# EAGLE library part NFC_MODULE_V3_SPI (library joakim)
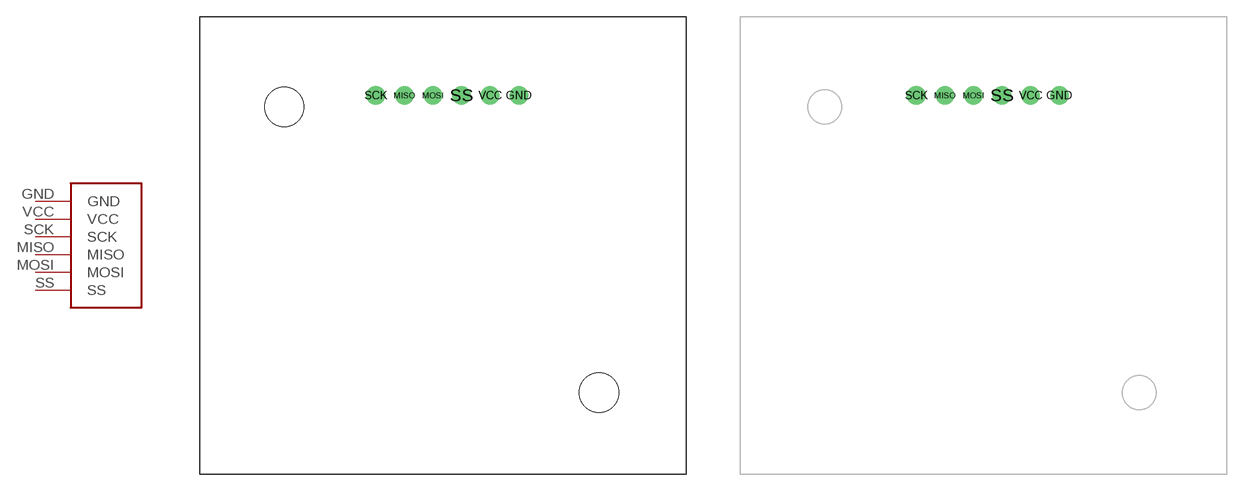
[diagram p34: symbol with the pads of NFC_MODULE_V3_SPI_CENTERED; footprints NFC_MODULE_V3_SPI_CENTERED, NFC_MODULE_V3_SPI_CENTERED_NO_HOLES]

Designator prefix -

## NFC_MODULE_V3_SPI  [NFC_MODULE_V3_SPI_CENTERED]
GND  GND
MISO  MISO
MOSI  MOSI
SCK  SCK
SS  SS
VCC  VCC

## NFC_MODULE_V3_SPINH  [NFC_MODULE_V3_SPI_CENTERED_NO_HOLES]
Pads as for NFC_MODULE_V3_SPI_CENTERED

## Footprint NFC_MODULE_V3_SPI_CENTERED (pad centres in mm)
drill 1.1: GND 6.731,13.335; MISO -3.429,13.335; MOSI -0.889,13.335; SCK -5.969,13.335; SS 1.651,13.335; VCC 4.191,13.335
hole 3.5 at -14.097,12.319
hole 3.5 at 13.843,-13.081

## Footprint NFC_MODULE_V3_SPI_CENTERED_NO_HOLES (pad centres in mm)
drill 1.1: GND 6.731,13.335; MISO -3.429,13.335; MOSI -0.889,13.335; SCK -5.969,13.335; SS 1.651,13.335; VCC 4.191,13.335